# Altium integrated library Peace的集成库.IntLib: 214 symbols (part 1 of 3)
Pins are listed as number, name and electrical type; pins without a type are passive.

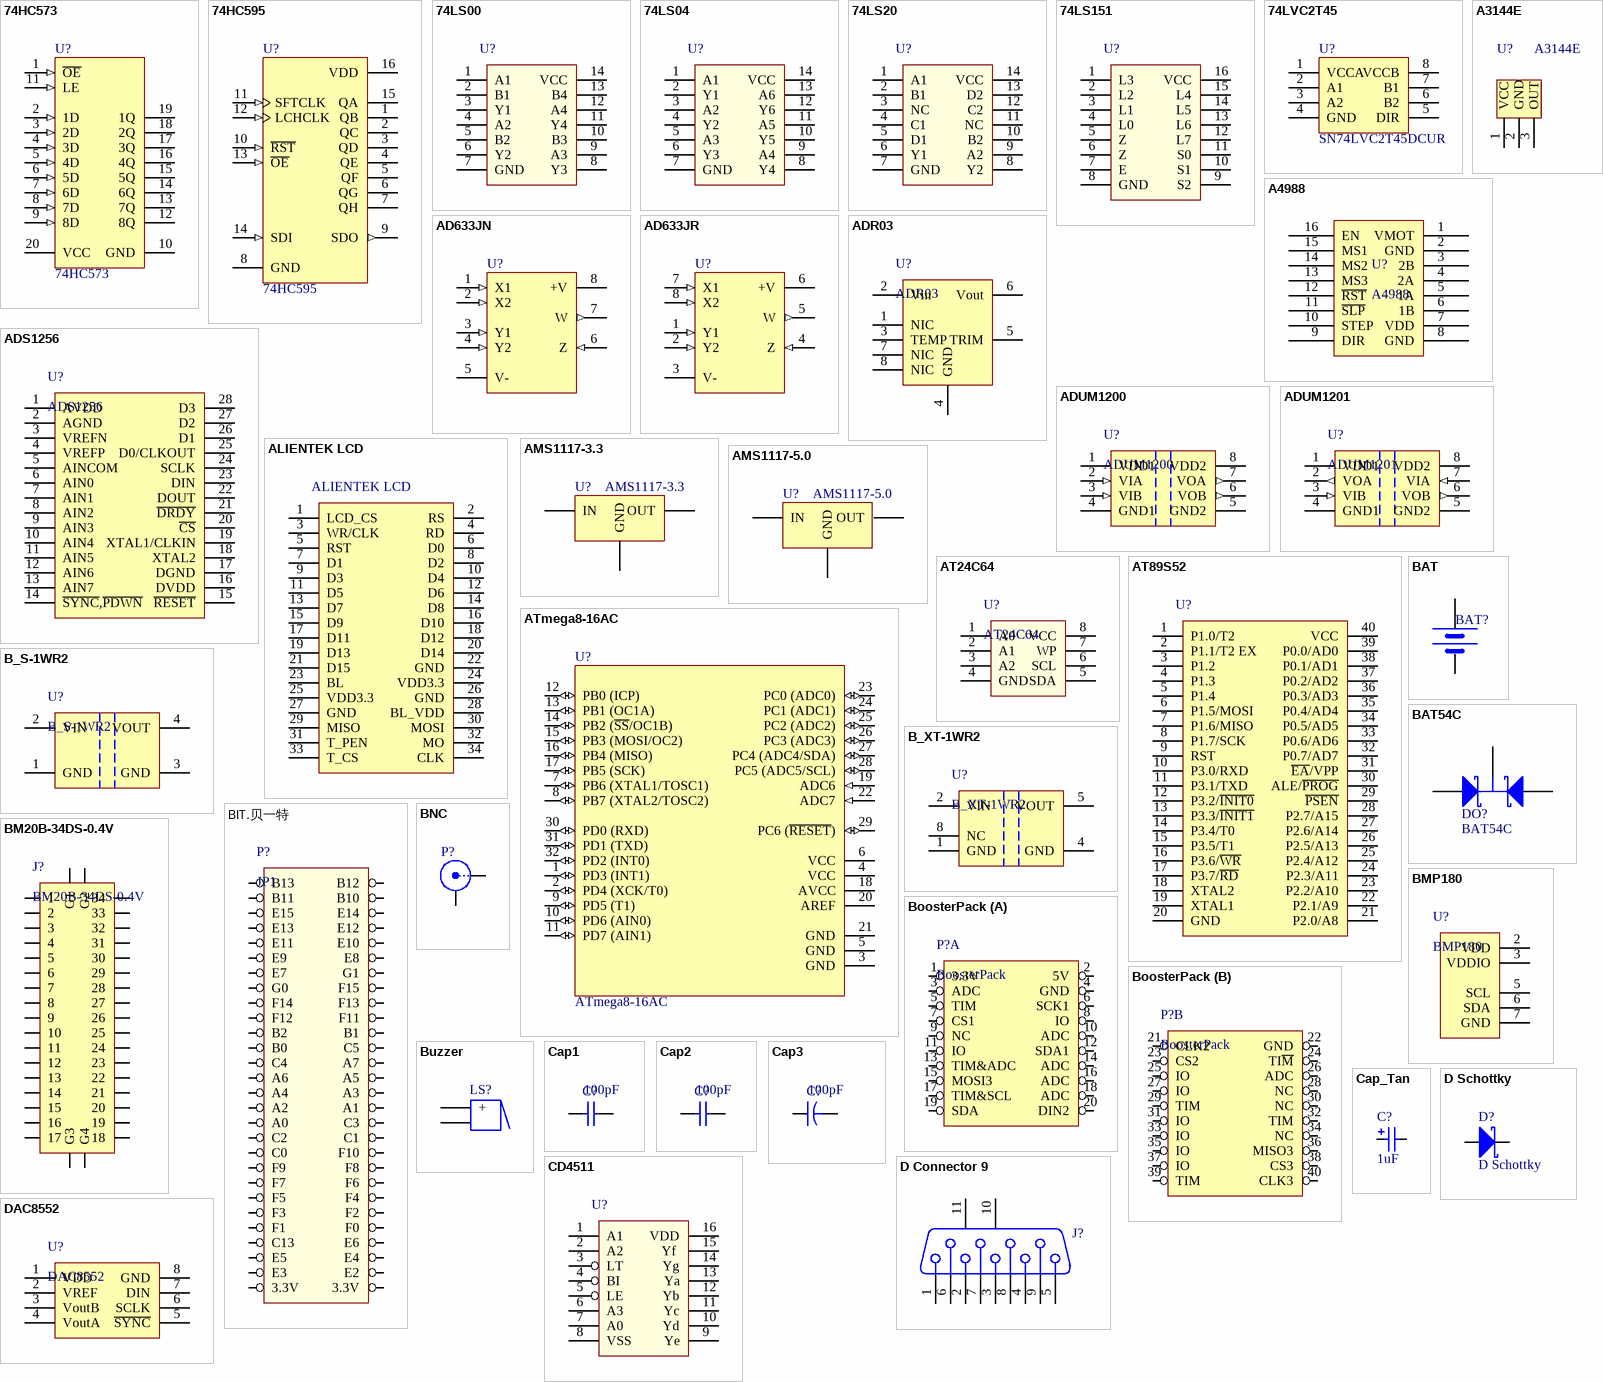
[diagram p0: symbols 74HC573 to DAC8552]

## 74HC573
designator U?
Octal Transparent Latches with 3-State Outputs; Published: 10-Feb-2010; DatasheetVersion: Rev.2.00, Mar-2006; PackageVersion: Sep-2005; PackageReference: PRDP0020AC-B; Publisher: Altium Limited; PackageDescription: 20-Pin Plastic DIP, 24.5 x 6.3 mm Body, 7.62 mm Row Spacing, 2.54 mm Pitch; Code_JEITA: P-DIP20-6.3x24.5-2.54; ComponentLink1Description: Manufacturer Link; ComponentLink1URL: http://sg.renesas.com/fmwk.jsp?cnt=hd74hc_root.jsp&fp=/products/standard_ic/general_purpose_logic/5v_standard_logic/hd74hc/; ComponentLink2Description: Datasheet; ComponentLink2URL: http://documentation.renesas.com/eng/products/logic/rej03d0629_hd74hc563_573ds.pdf; ComponentLink3Description: Packaging Specification; ComponentLink3URL: http://sg.renesas.com/media/products/common_info/package/pdf/ic/code/prdp0020ac_b.pdf
footprint TSSOP20_L (TSOP, 20-Leads, Body 6.5x4.4mm, Pitch 0.65mm, IPC High Density)
pins: 1 ~{OE} (in), 2 1D (in), 3 2D (in), 4 3D (in), 5 4D (in), 6 5D (in), 7 6D (in), 8 7D (in), 9 8D (in), 10 GND (power), 11 LE (in), 12 8Q (hiz), 13 7Q (hiz), 14 6Q (hiz), 15 5Q (hiz), 16 4Q (hiz), 17 3Q (hiz), 18 2Q (hiz), 19 1Q (hiz), 20 VCC (power)

## 74HC595
designator U?
8-Bit Serial-Input/Serial or Prallel-Output Shift Register with Latched 3-State Outputs; Published: 15-Apr-2002; LatestRevisionDate: 12-Dec-2006; LatestRevisionNote: IPC-7351 Footprint Added.; DatasheetVersion: Mar-2000; PackageVersion: Feb-2000; PackageReference: 948F-01; Publisher: Altium Limited; PackageDescription: 16-Pin Thin Small Outline Package 0.65 mm Pitch; ComponentLink1Description: Manufacturer Link; ComponentLink1URL: http://www.onsemi.com/; ComponentLink2Description: Datasheet; ComponentLink2URL: http://www.onsemi.com/pub/Collateral/MC74HC595A-D.PDF
footprint TSSOP-16N (TSOP, 16-Leads, Body 5.00x4.40mm, Pitch 0.65mm, IPC Medium Density)
pins: 1 QB (hiz), 2 QC (hiz), 3 QD (hiz), 4 QE (hiz), 5 QF (hiz), 6 QG (hiz), 7 QH (hiz), 8 GND (power), 9 SDO (out), 10 ~{RST} (in), 11 SFTCLK (in), 12 LCHCLK (in), 13 ~{OE} (in), 14 SDI (in), 15 QA (hiz), 16 VDD (power)

## 74LS00
designator U?  (value not drawn)
HelpURL: http://www.alldatasheet.com/view.jsp?Searchword=74LS00
footprint DIP-14 (width 7.62mm)
pins: 1 A1, 2 B1, 3 Y1, 4 A2, 5 B2, 6 Y2, 7 GND, 8 Y3, 9 A3, 10 B3, 11 Y4, 12 A4, 13 B4, 14 VCC

## 74LS04
designator U?  (value not drawn)
footprint DIP-14 (width 7.62mm)
pins: 1 A1, 2 Y1, 3 A2, 4 Y2, 5 A3, 6 Y3, 7 GND, 8 Y4, 9 A4, 10 Y5, 11 A5, 12 Y6, 13 A6, 14 VCC

## 74LS20
designator U?  (value not drawn)
footprint DIP-14 (width 7.62mm)
pins: 1 A1, 2 B1, 3 NC, 4 C1, 5 D1, 6 Y1, 7 GND, 8 Y2, 9 A2, 10 B2, 11 NC, 12 C2, 13 D2, 14 VCC

## 74LS151
designator U?  (value not drawn)
footprint DIP-16 (width 7.62mm)
pins: 1 L3, 2 L2, 3 L1, 4 L0, 5 Z, 6 Z, 7 E, 8 GND, 9 S2, 10 S1, 11 S0, 12 L7, 13 L6, 14 L5, 15 L4, 16 VCC

## 74LVC2T45
designator U?, comment SN74LVC2T45DCUR
footprint VSSOP8_0.5 (8-Leads, Body 2.00x2.30mm, Pitch 0.5mm, IPC Medium Density)
pins: 1 VCCA, 2 A1, 3 A2, 4 GND, 5 DIR, 6 B2, 7 B1, 8 VCCB

## A3144E
designator U?
footprint A3144E
pins: 1 VCC, 2 GND, 3 OUT

## A4988
designator U?
footprint A4988
pins: 1 VMOT (power), 2 GND (power), 3 2B (power), 4 2A (power), 5 1A (power), 6 1B (power), 7 VDD (power), 8 GND (power), 9 DIR (power), 10 STEP (power), 11 ~{SLP} (power), 12 ~{RST} (power), 13 MS3 (power), 14 MS2 (power), 15 MS1 (power), 16 EN (power)

## AD633JN
designator U?
Low-Cost Analog Multiplier; Published: 8-Jun-2000; LatestRevisionDate: 04-Mar-2005; LatestRevisionNote: Stylized 3D Model Added.; DatasheetVersion: REV.A 1998; PackageVersion: revA; PackageReference: N-8; Publisher: Altium Limited; PackageDescription: DIP; 8 Leads; Row Spacing 7.62 mm; Pitch 2.54 mm; ComponentLink1Description: Manufacturer Link; ComponentLink1URL: http://www.analog.com/en/prod/0%2C2877%2CAD633%2C00.html; ComponentLink2Description: Datasheet; ComponentLink2URL: http://www.analog.com/UploadedFiles/Data_Sheets/277093686AD633_e.pdf
footprint DIP-8 (width 7.62mm)
pins: 1 X1 (in), 2 X2 (in), 3 Y1 (in), 4 Y2 (in), 5 V- (power), 6 Z (in), 7 W (out), 8 +V (power)

## AD633JR
designator U?
Low-Cost Analog Multiplier; Published: 8-Jun-2000; LatestRevisionDate: 13-Apr-2006; LatestRevisionNote: IPC-7351 Footprint Added.; DatasheetVersion: REV.A 1998; PackageVersion: 2005; PackageReference: R-8; Publisher: Altium Limited; PackageDescription: 8-Pin Narrow Body Small Outline Integrated Circuit 1.27 mm Pitch; Code_JEDEC: MS-012-AA; Code_IPC: SOIC127P600-8; ComponentLink1Description: Manufacturer Link; ComponentLink1URL: http://www.analog.com/en/prod/0%2C2877%2CAD633%2C00.html; ComponentLink2Description: Datasheet; ComponentLink2URL: http://www.analog.com/UploadedFiles/Data_Sheets/277093686AD633_e.pdf
footprint SOIC8_L (SOIC, 8-Leads, Body 4.9x3.9mm, Pitch 1.27mm, IPC High Density)
footprint SOIC8_M (SOIC, 8-Leads, Body 4.9x3.9mm, Pitch 1.27mm, IPC Low Density)
footprint SOIC8_N (SOIC, 8-Leads, Body 4.9x3.9mm, Pitch 1.27mm, IPC Medium Density)
pins: 1 Y1 (in), 2 Y2 (in), 3 V- (power), 4 Z (in), 5 W (out), 6 +V (power), 7 X1 (in), 8 X2 (in)

## ADR03
designator U?
2.5V电压基准
footprint SOIC8_L (SOIC, 8-Leads, Body 4.9x3.9mm, Pitch 1.27mm, IPC High Density)
footprint SOIC8_M (SOIC, 8-Leads, Body 4.9x3.9mm, Pitch 1.27mm, IPC Low Density)
footprint SOIC8_N (SOIC, 8-Leads, Body 4.9x3.9mm, Pitch 1.27mm, IPC Medium Density)
pins: 1 NIC, 2 Vin, 3 TEMP, 4 GND, 5 TRIM, 6 Vout, 7 NIC, 8 NIC

## ADS1256
designator U?
footprint SSOP28_L (SOP, 28-Leads, Body 10.2x5.3mm, Pitch 0.65mm, IPC High Density)
footprint SSOP28_M (SOP, 28-Leads, Body 10.2x5.3mm, Pitch 0.65mm, IPC Low Density)
footprint SSOP28_N (SOP, 28-Leads, Body 10.2x5.3mm, Pitch 0.65mm, IPC Medium Density)
pins: 1 AVDD, 2 AGND, 3 VREFN, 4 VREFP, 5 AINCOM, 6 AIN0, 7 AIN1, 8 AIN2, 9 AIN3, 10 AIN4, 11 AIN5, 12 AIN6, 13 AIN7, 14 ~{SYNC},~{PDWN}, 15 ~{RESET}, 16 DVDD, 17 DGND, 18 XTAL2, 19 XTAL1/CLKIN, 20 ~{CS}, 21 ~{DRDY}, 22 DOUT, 23 DIN, 24 SCLK, 25 D0/CLKOUT, 26 D1, 27 D2, 28 D3

## ADUM1200
designator U?
双通道数字隔离器（2/0通道方向性）
footprint SOIC8_L (SOIC, 8-Leads, Body 4.9x3.9mm, Pitch 1.27mm, IPC High Density)
footprint SOIC8_M (SOIC, 8-Leads, Body 4.9x3.9mm, Pitch 1.27mm, IPC Low Density)
footprint SOIC8_N (SOIC, 8-Leads, Body 4.9x3.9mm, Pitch 1.27mm, IPC Medium Density)
pins: 1 VDD1 (power), 2 VIA (in), 3 VIB (in), 4 GND1 (power), 5 GND2 (power), 6 VOB (out), 7 VOA (out), 8 VDD2 (power)

## ADUM1201
designator U?
双通道数字隔离器（1/1通道方向性）
footprint SOIC8_L (SOIC, 8-Leads, Body 4.9x3.9mm, Pitch 1.27mm, IPC High Density)
footprint SOIC8_M (SOIC, 8-Leads, Body 4.9x3.9mm, Pitch 1.27mm, IPC Low Density)
footprint SOIC8_N (SOIC, 8-Leads, Body 4.9x3.9mm, Pitch 1.27mm, IPC Medium Density)
pins: 1 VDD1 (power), 2 VOA (out), 3 VIB (in), 4 GND1 (power), 5 GND2 (power), 6 VOB (out), 7 VIA (in), 8 VDD2 (power)

## ALIENTEK LCD
designator ALIENTEK LCD  (value not drawn)
footprint ALIENTEK LCD
pins: 1 LCD_CS, 2 RS, 3 WR/CLK, 4 RD, 5 RST, 6 D0, 7 D1, 8 D2, 9 D3, 10 D4, 11 D5, 12 D6, 13 D7, 14 D8, 15 D9, 16 D10, 17 D11, 18 D12, 19 D13, 20 D14, 21 D15, 22 GND, 23 BL, 24 VDD3.3, 25 VDD3.3, 26 GND, 27 GND, 28 BL_VDD, 29 MISO, 30 MOSI, 31 T_PEN, 32 MO, 33 T_CS, 34 CLK

## AMS1117-3.3
designator U?
footprint SOT-223_N (SOT223, 4-Leads, Body 6.5x3.5mm, Pitch 2.3mm, Lead Span 7mm - Alternate Lead Configuration, IPC Medium Density)
pins: 1 GND, 2 OUT, 3 IN

## AMS1117-5.0
designator U?
footprint SOT-223_N (SOT223, 4-Leads, Body 6.5x3.5mm, Pitch 2.3mm, Lead Span 7mm - Alternate Lead Configuration, IPC Medium Density)
pins: 1 GND, 2 OUT, 3 IN

## AT24C64
designator U?
footprint DIP-8 (width 7.62mm)
pins: 1 A0, 2 A1, 3 A2, 4 GND, 5 SDA, 6 SCL, 7 WP, 8 VCC

## AT89S52
designator U?  (value not drawn)
footprint DIP-40
pins: 1 P1.0/T2, 2 P1.1/T2 EX, 3 P1.2, 4 P1.3, 5 P1.4, 6 P1.5/MOSI, 7 P1.6/MISO, 8 P1.7/SCK, 9 RST, 10 P3.0/RXD, 11 P3.1/TXD, 12 P3.2/~{INIT0}, 13 P3.3/~{INIT1}, 14 P3.4/T0, 15 P3.5/T1, 16 P3.6/~{WR}, 17 P3.7/~{RD}, 18 XTAL2, 19 XTAL1, 20 GND, 21 P2.0/A8, 22 P2.1/A9, 23 P2.2/A10, 24 P2.3/A11, 25 P2.4/A12, 26 P2.5/A13, 27 P2.6/A14, 28 P2.7/A15, 29 ~{PSEN}, 30 ALE/~{PROG}, 31 ~{EA}/VPP, 32 P0.7/AD7, 33 P0.6/AD6, 34 P0.5/AD5, 35 P0.4/AD4, 36 P0.3/AD3, 37 P0.2/AD2, 38 P0.1/AD1, 39 P0.0/AD0, 40 VCC

## ATmega8-16AC
designator U?
8-Bit AVR Microcontroller with 8K Bytes of In-System Programmable Flash Memory; Published: 17-Sep-2003; LatestRevisionDate: 13-Apr-2006; LatestRevisionNote: IPC-7351 Footprint Added.; DatasheetVersion: 2486H-AVR-09/02; PackageVersion: revB, Oct-2001; PackageReference: 32A; Publisher: Altium Limited; PackageDescription: 32-Pin Thin Quad Flat Pack 0.8 mm Pitch; Code_JEDEC: MS-026-ABA; ComponentLink1Description: Manufacturer Link; ComponentLink1URL: http://www.atmel.com; ComponentLink2Description: Datasheet; ComponentLink2URL: http://www.atmel.com/dyn/resources/prod_documents/doc2486.pdf
3D model ATMEGA8-32A (32-Pin Thin Quad Flat Pack 0.8 mm Pitch)
footprint TQFP32A_L (Thin QFP, 32-Leads, Body 7x7mm, Pitch 0.8mm, IPC High Density)
pins: 1 PD3 (INT1) (io), 2 PD4 (XCK/T0) (io), 3 GND (power), 4 VCC (power), 5 GND (power), 6 VCC (power), 7 PB6 (XTAL1/TOSC1) (io), 8 PB7 (XTAL2/TOSC2) (io), 9 PD5 (T1) (io), 10 PD6 (AIN0) (io), 11 PD7 (AIN1) (io), 12 PB0 (ICP) (io), 13 PB1 (OC1A) (io), 14 PB2 (~{SS}/OC1B) (io), 15 PB3 (MOSI/OC2) (io), 16 PB4 (MISO) (io), 17 PB5 (SCK) (io), 18 AVCC (power), 19 ADC6 (in), 20 AREF, 21 GND (power), 22 ADC7 (in), 23 PC0 (ADC0) (io), 24 PC1 (ADC1) (io), 25 PC2 (ADC2) (io), 26 PC3 (ADC3) (io), 27 PC4 (ADC4/SDA) (io), 28 PC5 (ADC5/SCL) (io), 29 PC6 (~{RESET}) (io), 30 PD0 (RXD) (io), 31 PD1 (TXD) (io), 32 PD2 (INT0) (io)

## B_S-1WR2
designator U?
DC/DC 模块电源 1W，定电压输入，隔离非稳压单路输出
footprint B_S-1WR2
footprint B_S-1WR2_S
pins: 1 GND (power), 2 VIN (power), 3 GND (power), 4 VOUT (power)

## B_XT-1WR2
designator U?
DC/DC 模块电源 1W，定电压输入，隔离非稳压单路输出
footprint B_XT-1WR2
pins: 1 GND (power), 2 VIN (power), 4 GND (power), 5 VOUT (power), 8 NC

## BAT
designator BAT?, comment BATT  (value not drawn)
footprint BATM
pins: 1 VCC, 2 GND

## BAT54C
designator DO?
Schottky Barrier Double Diode; Published: 17-Sep-2003; LatestRevisionDate: 12-Dec-2006; LatestRevisionNote: IPC-7351 Footprint Added.; DatasheetVersion: 4-Mar-2002; PackageVersion: May-1999; PackageReference: SOT23; Publisher: Altium Limited; PackageDescription: 3-Pin SOT-23 Package 0.95 mm Pitch, 2.3 mm Lead Span; ComponentLink1Description: Manufacturer Link; ComponentLink1URL: http://www.semiconductors.philips.com/; ComponentLink2Description: Datasheet; ComponentLink2URL: http://www.semiconductors.philips.com/acrobat/datasheets/BAT54_SERIES_4.pdf
simulation model BAT54C (SUBCKT)
signal-integrity model BAT54C
footprint SOT23_L (SOT23, 3-Leads, Body 2.9x1.3mm, Pitch 0.95mm, Lead Span 2.3mm - Reverse Pinning, IPC High Density)
footprint SOT23_M (SOT23, 3-Leads, Body 2.9x1.3mm, Pitch 0.95mm, Lead Span 2.3mm - Reverse Pinning, IPC Low Density)
footprint SOT23_N (SOT23, 3-Leads, Body 2.9x1.3mm, Pitch 0.95mm, Lead Span 2.3mm - Reverse Pinning, IPC Medium Density)
pins: 1 K, 2 A2, 3 A1

## BIT.贝一特
designator P?, comment JP1
footprint HDR2X28 (Connector; Header; 28x2 Position)
pins: 1 B13, 2 B12, 3 B11, 4 B10, 5 E15, 6 E14, 7 E13, 8 E12, 9 E11, 10 E10, 11 E9, 12 E8, 13 E7, 14 G1, 15 G0, 16 F15, 17 F14, 18 F13, 19 F12, 20 F11, 21 B2, 22 B1, 23 B0, 24 C5, 25 C4, 26 A7, 27 A6, 28 A5, 29 A4, 30 A3, 31 A2, 32 A1, 33 A0, 34 C3, 35 C2, 36 C1, 37 C0, 38 F10, 39 F9, 40 F8, 41 F7, 42 F6, 43 F5, 44 F4, 45 F3, 46 F2, 47 F1, 48 F0, 49 C13, 50 E6, 51 E5, 52 E4, 53 E3, 54 E2, 55 3.3V, 56 3.3V

## BM20B-34DS-0.4V
designator J?
广濑34P板对板连接器(插座)
footprint BM20B-34DS-0.4V (广濑34P板对板连接器(插座))
pins: 1, 2, 3, 4, 5, 6, 7, 8, 9, 10, 11, 12, 13, 14, 15, 16, 17, 18, 19, 20, 21, 22, 23, 24, 25, 26, 27, 28, 29, 30, 31, 32, 33, 34, G1, G2, G3, G4

## BMP180
designator U?
footprint BMP180
pins: 2 VDD, 3 VDDIO, 5 SCL, 6 SDA, 7 GND

## BNC
designator P?
BNC Elbow Connector; LatestRevisionDate: 17-Jul-2002; LatestRevisionNote: Re-released for DXP Platform.; Publisher: Altium Limited
signal-integrity model Connector
footprint SMA-KE
pins: 1 X, 2 Y

## BoosterPack
designator P?
footprint BoosterPack
part A pins: 1 3.3V, 2 5V, 3 ADC, 4 GND, 5 TIM, 6 SCK1, 7 CS1, 8 IO, 9 NC, 10 ADC, 11 IO, 12 SDA1, 13 TIM&ADC, 14 ADC, 15 MOSI3, 16 ADC, 17 TIM&SCL, 18 ADC, 19 SDA, 20 DIN2
part B pins: 21 CLK2, 22 GND, 23 CS2, 24 TI~{M}, 25 IO, 26 ADC, 27 IO, 28 NC, 29 TIM, 30 NC, 31 IO, 32 TIM, 33 IO, 34 NC, 35 IO, 36 MISO3, 37 IO, 38 CS3, 39 TIM, 40 CLK3

## Buzzer
designator LS?
Magnetic Transducer Buzzer; Published: 24-Mar-1999; LatestRevisionDate: 17-Dec-2003; LatestRevisionNote: Schematic revised, PCB Footprint replaced.; DatasheetVersion: 17-Dec-2003; PackageReference: ABSM-1574; Publisher: Altium Limited; PackageDescription: Magnetic Transducer Buzzer; ComponentLink1Description: Manufacturer Link; ComponentLink1URL: http://www.megastar.com/linecard/buzzmode/index.php
footprint Buzzer 7.6
footprint Buzzer 5
pins: 1 +, 2
1 alternate drawing of the same symbol

## Cap1
designator C?  value 100pF  (hidden comment: Cap1)
Capacitor; Published: 8-Jun-2000; LatestRevisionDate: 17-Jul-2002; LatestRevisionNote: Re-released for DXP Platform.; PackageReference: RAD-0.3; Publisher: Altium Limited
footprint CAPC2012L (Chip Capacitor, Body 2.0x1.3mm, IPC High Density)
footprint CAPC2012M (Chip Capacitor, Body 2.0x1.3mm, IPC High Density)
footprint CAPC2012N (Chip Capacitor, Body 2.0x1.3mm, IPC Medium Density)
footprint CAPC1005L (Chip Capacitor, Body 1.0x0.5mm, IPC High Density)
footprint CAPC1005M (Chip Capacitor, Body 1.0x0.5mm, IPC Low Density)
footprint CAPC1005N (Chip Capacitor, Body 1.0x0.5mm, IPC Medium Density)
footprint CAPC1608L (Chip Capacitor, Body 1.6x0.8mm, IPC High Density)
footprint CAPC1608M (Chip Capacitor, Body 1.6x0.8mm, IPC Low Density)
footprint CAPC1608N (Chip Capacitor, Body 1.6x0.8mm, IPC Medium Density)
footprint CAPC3216L (Chip Capacitor, Body 3.2x1.6mm, IPC High Density)
footprint CAPC3216M (Chip Capacitor, Body 3.2x1.6mm, IPC Low Density)
footprint CAPC3216N (Chip Capacitor, Body 3.2x1.6mm, IPC Medium Density)
footprint C1210_L (Chip Capacitor, Body 3.2x2.5mm, IPC High Density)
footprint C1210_M (Chip Capacitor, Body 3.2x2.5mm, IPC Low Density)
footprint C1210_N (Chip Capacitor, Body 3.2x2.5mm, IPC Medium Density)
pins: 1, 2

## Cap2
designator C?  value 100pF  (hidden comment: Cap2)
Capacitor; Published: 8-Jun-2000; LatestRevisionDate: 17-Jul-2002; LatestRevisionNote: Re-released for DXP Platform.; PackageReference: RAD-0.3; Publisher: Altium Limited
footprint RAD-0.1 (Radial Cap, Thru-Hole; 2 Leads; 0.1 in Pin Spacing)
footprint RAD-0.2 (Radial Cap, Thru-Hole; 2 Leads; 0.2 in Pin Spacing)
footprint RAD-0.3 (Radial Cap, Thru-Hole; 2 Leads; 0.3 in Pin Spacing)
footprint RAD-0.4 (Radial Cap, Thru-Hole; 2 Leads; 0.4 in Pin Spacing)
pins: 1, 2

## Cap3
designator C?  value 100pF  (hidden comment: Cap3)
Capacitor; Published: 23-Sep-2002; PackageReference: CAPR5-4X5; Publisher: Altium Limited
footprint CAPR2-5x6.8 (Capacitor, Electrolytic, Radial; Body 5 x 6.8 mm (Dia.xH typ); Pin Spacing 2 mm (typ))
footprint CAPR4.5-22X13
footprint CAPR4.5-20X10
footprint CAPR3.5-12X8
footprint CAPR2.54-11X6 (Capacitor, Ceramic, Thru-Hole, Dipped Radial; Body 5.1 x 3.2 mm (WxT) Pin Spacing 2.54 mm (typ))
footprint CAPR3.0-12X8
footprint SMD-EC-F3
footprint SMD-EC-F4
footprint SMD-EC-F5
footprint SMD-EC-F6.3
footprint SMD-EC-F8
footprint SMD-EC-F10
footprint SMD-EC-F12.5
footprint SMD-EC-F16
pins: 1, 2

## Cap_Tan
designator C?  value 1uF  (hidden comment: Cap_Tan)
Capacitor
footprint CAP_TAN_B1210
footprint CAP_TAN_P0805
footprint CAP_TAN_B_3518
pins: 1, 2
1 alternate drawing of the same symbol

## CD4511
designator U?  (value not drawn)
footprint DIP-16 (width 7.62mm)
pins: 1 A1, 2 A2, 3 LT, 4 BI, 5 LE, 6 A3, 7 A0, 8 VSS, 9 Ye, 10 Yd, 11 Yc, 12 Yb, 13 Ya, 14 Yg, 15 Yf , 16 VDD

## D Connector 9
designator J?
Receptacle Assembly, 9 Position, Right Angle; PackageDocument: O; Positions: 9; Published: 15-Jun-2001; LatestRevisionDate: 17-Jul-2002; LatestRevisionNote: Re-released for DXP Platform.; DatasheetDocument: 1-Sep-1999; PackageReference: 788750; Publisher: Altium Limited; Orientation: Right Angle; Gender: Receptacle
footprint DSUB1.385-2H9 (Connector; D Subminiature; 9 Position; Right Angle; Pitch 1.385 mm)
signal-integrity model Connector
footprint DSUB1.385-2H9 (Connector; D Subminiature; 9 Position; Right Angle; Pitch 1.385 mm)
pins: 1, 2, 3, 4, 5, 6, 7, 8, 9, 10 MH1, 11 MH2

## D Schottky
designator D?
Schottky Diode; Published: 8-Jun-2000; LatestRevisionDate: 17-Jul-2002; LatestRevisionNote: Re-released for DXP Platform.; PackageReference: SMB; Publisher: Altium Limited; Code_JEDEC: DO-214-AA
footprint DO-201AD (Diode, Axial; Body 9.5 x 5.3 mm (LxDia. max), Lead Dia. 1.32 mm (max))
footprint DO-7 (Diode, Axial; Body 7 x 2.7 mm (LxDia. max), Lead Dia. 0.53 mm (max))
footprint DO-35 (Diode, Axial; Body 3.8 x 1.9 mm (LxDia. max), Lead Dia. 0.53 mm (max))
footprint DO-35A (Diode, Axial; Body 4.6 x 1.9 mm (LxDia. max), Lead Dia. 0.53 mm (max))
footprint DO-41 (Diode, Axial; Body 5.2 x 2.7 mm (LxDia. max), Lead Dia. 0.86 mm (max))
footprint DO-204AL (Diode, Axial; Body 5.2 x 2.7 mm (LxDia. max), Lead Dia. 0.86 mm (max))
footprint DO-15-UP
footprint DO-214AC
footprint SOD-323 (SOD-323/SC-76; 2 Leads; Body 1.7 x 1.3 mm, (LxW))
footprint DO-214AB (SMC)
footprint DO-214AA (SMB)
pins: 1 A, 2 K

## DAC8552
designator U?
footprint VSSOP_8
pins: 1 VDD, 2 VREF, 3 VoutB, 4 VoutA, 5 ~{SYNC}, 6 SCLK, 7 DIN, 8 GND

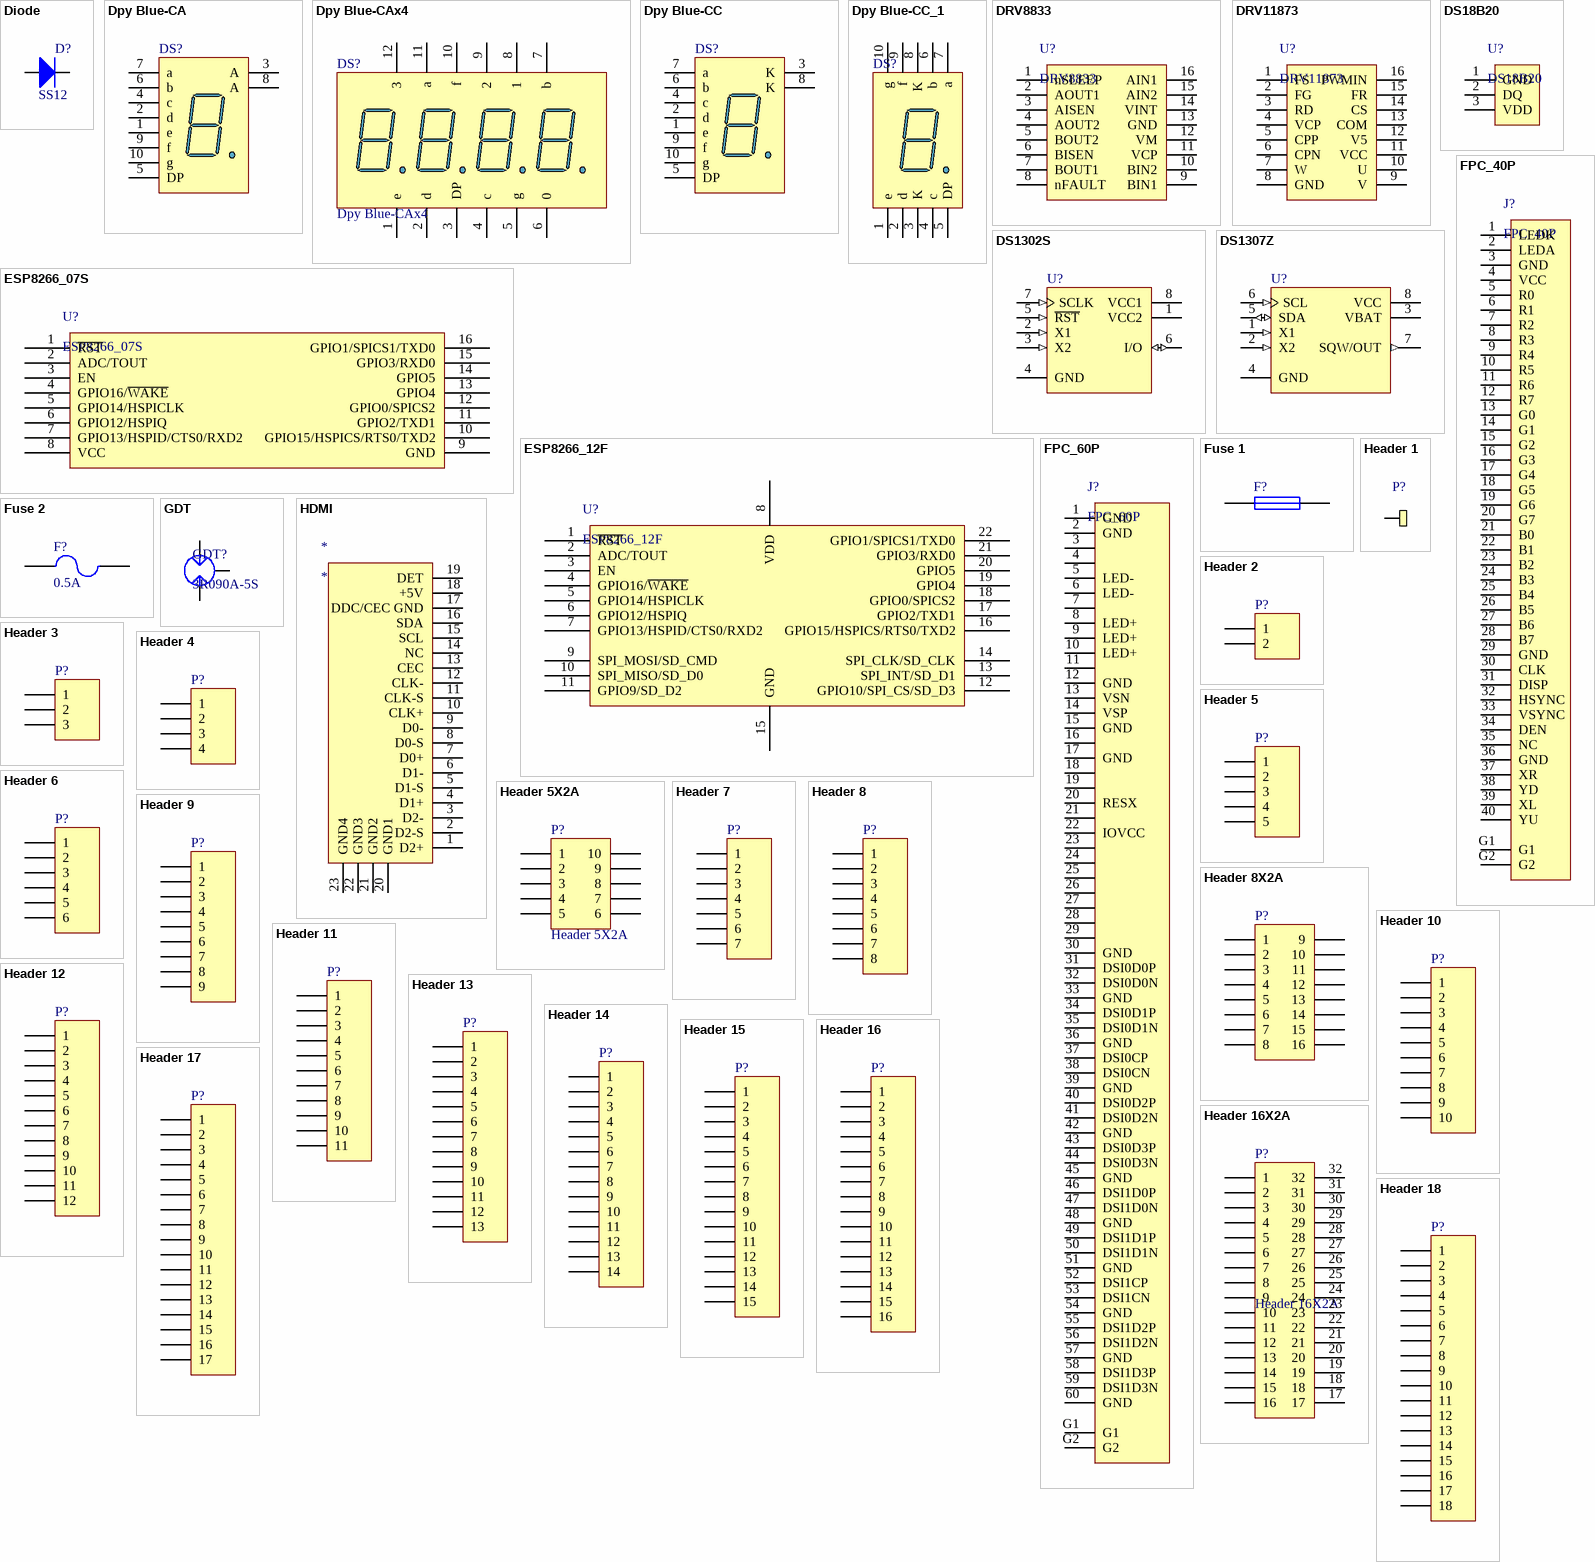
[diagram p1: symbols Diode to Header 18]

## Diode
designator D?  SMA: SS12  (hidden comment: Diode)
footprint DO-214AC
footprint DO-214AB (SMC)
footprint DO-214AA (SMB)
pins: 1 A, 2 K

## Dpy Blue-CA
designator DS?
14.2 mm General Purpose Blue 7-Segment Display: CA, RH DP, Gray Surface; MinimumIntensity: 2020 ucd; Note: IF = 10 mA; Published: 8-Jun-2000; LatestRevisionDate: 17-Dec-2003; LatestRevisionNote: Schematic revised, PCB Footprint replaced.; DatasheetVersion: 24-Sep-2002; PackageVersion: 24-Sep-2002; PackageReference: H; Publisher: Altium Limited; Colour: Blue; ComponentLink1Description: Manufacturer Link; ComponentLink1URL: http://www.agilent.com/
footprint LEDDIP-10/C15.24RHD (LED, 7-Segment Display, 14.2 mm, RHD; 10 Leads; Row Space 15.24 mm; Pitch 2.54 mm)
pins: 1 e "Cathode", 2 d "Cathode", 3 A "Common Anode", 4 c "Cathode", 5 DP "Cathode", 6 b "Cathode", 7 a "Cathode", 8 A "Common Anode", 9 f "Cathode", 10 g "Cathode"

## Dpy Blue-CAx4
designator DS?
footprint LEDDIP-12 3x1.4 (30x14x7.5mm)
footprint LEDDIP-12 5.03x19 (50.3x19x8mm)
footprint LEDDIP-12 3.76x19 (37.6x19x8mm)
pins: 1 e "Cathode", 2 d "Cathode", 3 DP "Cathode", 4 c "Cathode", 5 g "Cathode", 6 0 "Common Anode", 7 b "Cathode", 8 1 "Common Anode", 9 2 "Common Anode", 10 f "Cathode", 11 a "Cathode", 12 3 "Common Anode"

## Dpy Blue-CC
designator DS?
14.2 mm General Purpose Blue 7-Segment Display: CC, RH DP, Gray Surface; MinimumIntensity: 2020 ucd; Note: IF = 10 mA; Published: 8-Jun-2000; LatestRevisionDate: 17-Dec-2003; LatestRevisionNote: Schematic revised, PCB Footprint replaced.; DatasheetVersion: 24-Sep-2002; PackageVersion: 24-Sep-2002; PackageReference: H; Publisher: Altium Limited; Colour: Blue; ComponentLink1Description: Manufacturer Link; ComponentLink1URL: http://www.agilent.com/
footprint LEDDIP-10/C15.24RHD (LED, 7-Segment Display, 14.2 mm, RHD; 10 Leads; Row Space 15.24 mm; Pitch 2.54 mm)
pins: 1 e "Anode", 2 d "Anode", 3 K "Common Cathode", 4 c "Anode", 5 DP "Anode", 6 b "Anode", 7 a "Anode", 8 K "Common Cathode", 9 f "Anode", 10 g "Anode"

## Dpy Blue-CC_1
designator DS?
14.2 mm General Purpose Blue 7-Segment Display: CC, RH DP, Gray Surface; MinimumIntensity: 2020 ucd; Note: IF = 10 mA; Published: 8-Jun-2000; LatestRevisionDate: 17-Dec-2003; LatestRevisionNote: Schematic revised, PCB Footprint replaced.; DatasheetVersion: 24-Sep-2002; PackageVersion: 24-Sep-2002; PackageReference: H; Publisher: Altium Limited; Colour: Blue; ComponentLink1Description: Manufacturer Link; ComponentLink1URL: http://www.agilent.com/
footprint LEDDIP-10/C15.24RHD (LED, 7-Segment Display, 14.2 mm, RHD; 10 Leads; Row Space 15.24 mm; Pitch 2.54 mm)
pins: 1 e "Anode", 2 d "Anode", 3 K "Common Cathode", 4 c "Anode", 5 DP "Anode", 6 b "Anode", 7 a "Anode", 8 K "Common Cathode", 9 f "Anode", 10 g "Anode"

## DRV8833
designator U?
footprint TSSOP-16N (TSOP, 16-Leads, Body 5.00x4.40mm, Pitch 0.65mm, IPC Medium Density)
pins: 1 nSLEEP, 2 AOUT1, 3 AISEN, 4 AOUT2, 5 BOUT2, 6 BISEN, 7 BOUT1, 8 nFAULT, 9 BIN1, 10 BIN2, 11 VCP, 12 VM, 13 GND, 14 VINT, 15 AIN2, 16 AIN1

## DRV11873
designator U?
三相无传感器、 无刷直流 (BLDC) 电机驱动器
footprint TSSOP-16N (TSOP, 16-Leads, Body 5.00x4.40mm, Pitch 0.65mm, IPC Medium Density)
pins: 1 FS, 2 FG, 3 RD, 4 VCP, 5 CPP, 6 CPN, 7 W, 8 GND, 9 V, 10 U, 11 VCC, 12 V5, 13 COM, 14 CS, 15 FR, 16 PWMIN

## DS18B20
designator U?
footprint TO-226-AA (TO, Flat Index; 3 In-Line, Axial Leads; Body Dia. 4.8mm; Leads 0.55 x 0.51 mm (max))
pins: 1 GND, 2 DQ, 3 VDD

## DS1302S
designator U?
Trickle Charge Timekeeping Chip; Published: 13-Oct-2000; LatestRevisionDate: 13-Apr-2006; LatestRevisionNote: IPC-7351 Footprint Added.; DatasheetVersion: 2-Jul-1999; PackageVersion: 1994; PackageReference: SOIC8WA; Publisher: Altium Limited; PackageDescription: 8-Pin Small Outline Package 1.27 mm Pitch; ComponentLink1Description: Manufacturer Link; ComponentLink1URL: http://www.maxim-ic.com/; ComponentLink2Description: Datasheet; ComponentLink2URL: http://pdfserv.maxim-ic.com/en/ds/DS1302.pdf; ComponentLink3Description: Discontinuation Notice; ComponentLink3URL: http://www.maxim-ic.com/qa/pdfs/non-obsolescence-letter.pdf
footprint SOIC8_L (SOIC, 8-Leads, Body 4.9x3.9mm, Pitch 1.27mm, IPC High Density)
footprint SOIC8_M (SOIC, 8-Leads, Body 4.9x3.9mm, Pitch 1.27mm, IPC Low Density)
footprint SOIC8_N (SOIC, 8-Leads, Body 4.9x3.9mm, Pitch 1.27mm, IPC Medium Density)
pins: 1 VCC2 (power), 2 X1 (in), 3 X2 (in), 4 GND (power), 5 ~{RST} (in), 6 I/O (io), 7 SCLK (in), 8 VCC1 (power)

## DS1307Z
designator U?
64 X 8 Serial Real-Time Clock; Published: 13-Oct-2000; LatestRevisionDate: 13-Apr-2006; LatestRevisionNote: IPC-7351 Footprint Added.; DatasheetVersion: 10-Aug-1999; PackageVersion: 1999; PackageReference: SOIC8N; Publisher: Altium Limited; PackageDescription: 8-Pin Small Outline Integrated Circuit 1.27 mm Pitch; Code_IPC: SOIC127P600-8; ComponentLink1Description: Manufacturer Link; ComponentLink1URL: http://www.maxim-ic.com/; ComponentLink2Description: Datasheet; ComponentLink2URL: http://pdfserv.maxim-ic.com/en/ds/DS1307.pdf; ComponentLink3Description: Discontinuation Notice; ComponentLink3URL: http://www.maxim-ic.com/qa/pdfs/non-obsolescence-letter.pdf
footprint SOIC8_L (SOIC, 8-Leads, Body 4.9x3.9mm, Pitch 1.27mm, IPC High Density)
footprint SOIC8_M (SOIC, 8-Leads, Body 4.9x3.9mm, Pitch 1.27mm, IPC Low Density)
footprint SOIC8_N (SOIC, 8-Leads, Body 4.9x3.9mm, Pitch 1.27mm, IPC Medium Density)
pins: 1 X1 (in), 2 X2 (in), 3 VBAT (power), 4 GND (power), 5 SDA (io), 6 SCL (in), 7 SQW/OUT (out), 8 VCC (power)

## ESP8266_07S
designator U?
footprint ESP8266_07S
pins: 1 ~{RST} "Reset", 2 ADC/TOUT "ADC Input Or TOUT Output", 3 EN "Chip enable", 4 GPIO16/~{WAKE} "GPIO16 or Deep-Sleep Wakeup", 5 GPIO14/HSPICLK "GPIO14 or SPI CLK", 6 GPIO12/HSPIQ "GPIO12 or SPIQ", 7 GPIO13/HSPID/CTS0/RXD2 "GPIO13 or SPID", 8 VCC "Power supply", 9 GND "Power ground", 10 GPIO15/HSPICS/RTS0/TXD2 "GPIO15 or SPICS", 11 GPIO2/TXD1 "GPIO2 or TX", 12 GPIO0/SPICS2 "GPIO0 or SPICS2", 13 GPIO4 "GPIO5", 14 GPIO5 "GPIO4", 15 GPIO3/RXD0 "GPIO3 or UART RXD", 16 GPIO1/SPICS1/TXD0 "GPIO1 or UART TXD"

## ESP8266_12F
designator U?
footprint ESP8266_12F
pins: 1 ~{RST} "Reset", 2 ADC/TOUT "ADC Input Or TOUT Output", 3 EN "Chip enable", 4 GPIO16/~{WAKE} "GPIO16 or Deep-Sleep Wakeup", 5 GPIO14/HSPICLK "GPIO14 or SPI CLK", 6 GPIO12/HSPIQ "GPIO12 or SPIQ", 7 GPIO13/HSPID/CTS0/RXD2 "GPIO13 or SPID", 8 VDD "Power supply", 9 SPI_MOSI/SD_CMD "GPIO14 or SPI CLK", 10 SPI_MISO/SD_D0 "GPIO12 or SPIQ", 11 GPIO9/SD_D2 "GPIO13 or SPID", 12 GPIO10/SPI_CS/SD_D3 "GPIO15 or SPICS", 13 SPI_INT/SD_D1 "GPIO2 or TX", 14 SPI_CLK/SD_CLK "GPIO0 or SPICS2", 15 GND "Power ground", 16 GPIO15/HSPICS/RTS0/TXD2 "GPIO15 or SPICS", 17 GPIO2/TXD1 "GPIO2 or TX", 18 GPIO0/SPICS2 "GPIO0 or SPICS2", 19 GPIO4 "GPIO5", 20 GPIO5 "GPIO4", 21 GPIO3/RXD0 "GPIO3 or UART RXD", 22 GPIO1/SPICS1/TXD0 "GPIO1 or UART TXD"

## FPC_40P
designator J?
footprint FPC0.5_40P
pins: 1 LEDK, 2 LEDA, 3 GND, 4 VCC, 5 R0, 6 R1, 7 R2, 8 R3, 9 R4, 10 R5, 11 R6, 12 R7, 13 G0, 14 G1, 15 G2, 16 G3, 17 G4, 18 G5, 19 G6, 20 G7, 21 B0, 22 B1, 23 B2, 24 B3, 25 B4, 26 B5, 27 B6, 28 B7, 29 GND, 30 CLK, 31 DISP, 32 HSYNC, 33 VSYNC, 34 DEN, 35 NC, 36 GND, 37 XR, 38 YD, 39 XL, 40 YU, G1, G2

## FPC_60P
designator J?
footprint FPC0.5_60P
pins: 1 GND, 2 GND, 3, 4, 5 LED-, 6 LED-, 7, 8 LED+, 9 LED+, 10 LED+, 11, 12 GND, 13 VSN, 14 VSP, 15 GND, 16, 17 GND, 18, 19, 20 RESX, 21, 22 IOVCC, 23, 24, 25, 26, 27, 28, 29, 30 GND, 31 DSI0D0P, 32 DSI0D0N, 33 GND, 34 DSI0D1P, 35 DSI0D1N, 36 GND, 37 DSI0CP, 38 DSI0CN, 39 GND, 40 DSI0D2P, 41 DSI0D2N, 42 GND, 43 DSI0D3P, 44 DSI0D3N, 45 GND, 46 DSI1D0P, 47 DSI1D0N, 48 GND, 49 DSI1D1P, 50 DSI1D1N, 51 GND, 52 DSI1CP, 53 DSI1CN, 54 GND, 55 DSI1D2P, 56 DSI1D2N, 57 GND, 58 DSI1D3P, 59 DSI1D3N, 60 GND, G1, G2

## Fuse 1
designator F?
Fuse; Published: 8-Jun-2000; LatestRevisionDate: 17-Jul-2002; LatestRevisionNote: Re-released for DXP Platform.; PackageReference: PIN-W2/E2.8; Publisher: Altium Limited; PackageDescription: Thru-Hole; 2 Leads
simulation model FUSE (Spice Subcircuit)
footprint 1812 (Chip Capacitor, Body 4.5x3.2mm, IPC High Density)
pins: 1, 2

## Fuse 2
designator F?, comment 0.5A
Fuse; Published: 8-Jun-2000; LatestRevisionDate: 17-Jul-2002; LatestRevisionNote: Re-released for DXP Platform.; PackageReference: PIN-W2/E2.8; Publisher: Altium Limited; PackageDescription: Thru-Hole; 2 Leads
simulation model FUSE (Spice Subcircuit)
footprint 1812 (Chip Capacitor, Body 4.5x3.2mm, IPC High Density)
footprint FUSE3216L (Body 3.2x1.6mm, IPC High Density)
footprint FUSE3216M (Body 3.2x1.6mm, IPC Low Density)
footprint FUSE3216N (Body 3.2x1.6mm, IPC Medium Density)
footprint FUSE2012L (Body 2.0x1.2mm, IPC Low Density)
footprint FUSE2012M (Body 2.0x1.2mm, IPC Low Density)
footprint FUSE2012N (Body 2.0x1.2mm, IPC Low Density)
pins: 1, 2

## GDT
designator GDT?, comment 3R090A-5S
气体放电管
footprint SMD-7.6*5.0 (气体放电管)
pins: 1 A, 2 E, 3 B

## HDMI
designator *
footprint HDMI19/0.5/S/H/F
pins: 1 D2+, 2 D2-S, 3 D2-, 4 D1+, 5 D1-S, 6 D1-, 7 D0+, 8 D0-S, 9 D0-, 10 CLK+, 11 CLK-S, 12 CLK-, 13 CEC, 14 NC, 15 SCL, 16 SDA, 17 DDC/CEC GND, 18 +5V, 19 DET, 20 GND1, 21 GND2, 22 GND3, 23 GND4

## Header 1
designator P?  (value not drawn)
Header, 1-Pin
footprint JP1
pins: 1

## Header 2
designator P?  (value not drawn)
Header, 2-Pin; LatestRevisionDate: 17-Jul-2002; LatestRevisionNote: Re-released for DXP Platform.; Publisher: Altium Limited
footprint HDR1X2 (Connector; Header; 2 Position)
footprint HX2.54-2
footprint PH2.0-2
footprint HT3.96-2 (Connector; Header; 2 Position)
footprint KF396-2
pins: 1, 2

## Header 3
designator P?  (value not drawn)
Header, 3-Pin; LatestRevisionDate: 17-Jul-2002; LatestRevisionNote: Re-released for DXP Platform.; Publisher: Altium Limited
footprint HDR1X3 (Connector; Header; 4 Position)
footprint HX2.54-3
footprint PH2.0-3
footprint HT3.96-3 (Connector; Header; 3 Position)
footprint KF396-3
footprint KF2EDGR-5.08-3P_S
pins: 1, 2, 3

## Header 4
designator P?  (value not drawn)
Header, 4-Pin; LatestRevisionDate: 17-Jul-2002; LatestRevisionNote: Re-released for DXP Platform.; Publisher: Altium Limited
footprint HDR1X4 (Connector; Header; 4 Position)
footprint HX2.54-4
footprint PH2.0-4
footprint HDR1X4_1.27
footprint HT3.96-4 (Connector; Header; 4 Position)
footprint KF2EDGR-5.08-4P_S
pins: 1, 2, 3, 4

## Header 5
designator P?  (value not drawn)
Header, 5-Pin; LatestRevisionDate: 17-Jul-2002; LatestRevisionNote: Re-released for DXP Platform.; Publisher: Altium Limited
footprint HDR1X5 (Connector; Header; 5 Position)
footprint HX2.54-5
footprint PH2.0-5
footprint KF396-5
pins: 1, 2, 3, 4, 5

## Header 5X2A
designator P?
Header, 5-Pin, Dual row; LatestRevisionDate: 17-Jul-2002; LatestRevisionNote: Re-released for DXP Platform.; Publisher: Altium Limited
signal-integrity model Connector
footprint HDR2x5_TOP
pins: 1, 2, 3, 4, 5, 6, 7, 8, 9, 10

## Header 6
designator P?  (value not drawn)
Header, 6-Pin; LatestRevisionDate: 17-Jul-2002; LatestRevisionNote: Re-released for DXP Platform.; Publisher: Altium Limited
footprint HDR1X6 (Footprint not found)
footprint HX2.54-6
footprint PH2.0-6
footprint HT3.96-6 (Connector; Header; 6 Position)
pins: 1, 2, 3, 4, 5, 6

## Header 7
designator P?
Header, 7-Pin; LatestRevisionDate: 17-Jul-2002; LatestRevisionNote: Re-released for DXP Platform.; Publisher: Altium Limited
footprint HDR1X7 (Connector; Header; 7 Position)
signal-integrity model Connector
footprint PH2.0-7
footprint HX2.54-7
pins: 1, 2, 3, 4, 5, 6, 7

## Header 8
designator P?
Header, 8-Pin; LatestRevisionDate: 17-Jul-2002; LatestRevisionNote: Re-released for DXP Platform.; Publisher: Altium Limited
footprint HDR1X8 (Connector; Header; 8 Position)
signal-integrity model Connector
footprint PH2.0-8
footprint HX2.54-8
footprint KF2EDGR-5.08-8P_S
pins: 1, 2, 3, 4, 5, 6, 7, 8

## Header 8X2A
designator P?
Header, 8-Pin, Dual row; LatestRevisionDate: 17-Jul-2002; LatestRevisionNote: Re-released for DXP Platform.; Publisher: Altium Limited
footprint HDR2X8_CEN (Connector; Header; 8x2 Position)
signal-integrity model Connector
footprint HDR2X8_CEN (Connector; Header; 8x2 Position)
pins: 1, 2, 3, 4, 5, 6, 7, 8, 9, 10, 11, 12, 13, 14, 15, 16

## Header 9
designator P?
Header, 9-Pin; LatestRevisionDate: 17-Jul-2002; LatestRevisionNote: Re-released for DXP Platform.; Publisher: Altium Limited
footprint HDR1X9 (Connector; Header; 9 Position)
signal-integrity model Connector
pins: 1, 2, 3, 4, 5, 6, 7, 8, 9

## Header 10
designator P?
Header, 10-Pin; LatestRevisionDate: 17-Jul-2002; LatestRevisionNote: Re-released for DXP Platform.; Publisher: Altium Limited
footprint HDR1X10 (Connector; Header; 10 Position)
signal-integrity model Connector
pins: 1, 2, 3, 4, 5, 6, 7, 8, 9, 10

## Header 11
designator P?
Header, 11-Pin; LatestRevisionDate: 17-Jul-2002; LatestRevisionNote: Re-released for DXP Platform.; Publisher: Altium Limited
footprint HDR1X11 (Connector; Header; 11 Position)
signal-integrity model Connector
pins: 1, 2, 3, 4, 5, 6, 7, 8, 9, 10, 11

## Header 12
designator P?
Header, 12-Pin; LatestRevisionDate: 17-Jul-2002; LatestRevisionNote: Re-released for DXP Platform.; Publisher: Altium Limited
footprint HDR1X12 (Connector; Header; 12 Position)
signal-integrity model Connector
pins: 1, 2, 3, 4, 5, 6, 7, 8, 9, 10, 11, 12

## Header 13
designator P?
Header, 13-Pin; LatestRevisionDate: 17-Jul-2002; LatestRevisionNote: Re-released for DXP Platform.; Publisher: Altium Limited
footprint HDR1X13 (Connector; Header; 13 Position)
signal-integrity model Connector
pins: 1, 2, 3, 4, 5, 6, 7, 8, 9, 10, 11, 12, 13

## Header 14
designator P?
Header, 14-Pin; LatestRevisionDate: 17-Jul-2002; LatestRevisionNote: Re-released for DXP Platform.; Publisher: Altium Limited
footprint HDR1X14 (Connector; Header; 14 Position)
signal-integrity model Connector
pins: 1, 2, 3, 4, 5, 6, 7, 8, 9, 10, 11, 12, 13, 14

## Header 15
designator P?
Header, 15-Pin; LatestRevisionDate: 17-Jul-2002; LatestRevisionNote: Re-released for DXP Platform.; Publisher: Altium Limited
footprint HDR1X15 (Connector; Header; 15 Position)
signal-integrity model Connector
pins: 1, 2, 3, 4, 5, 6, 7, 8, 9, 10, 11, 12, 13, 14, 15

## Header 16
designator P?
Header, 16-Pin; LatestRevisionDate: 17-Jul-2002; LatestRevisionNote: Re-released for DXP Platform.; Publisher: Altium Limited
footprint HDR1X16 (Connector; Header; 16 Position)
signal-integrity model Connector
pins: 1, 2, 3, 4, 5, 6, 7, 8, 9, 10, 11, 12, 13, 14, 15, 16

## Header 16X2A
designator P?
Header, 16-Pin, Dual row; LatestRevisionDate: 17-Jul-2002; LatestRevisionNote: Re-released for DXP Platform.; Publisher: Altium Limited
footprint HDR2X16_CEN (Connector; Header; 16x2 Position)
pins: 1, 2, 3, 4, 5, 6, 7, 8, 9, 10, 11, 12, 13, 14, 15, 16, 17, 18, 19, 20, 21, 22, 23, 24, 25, 26, 27, 28, 29, 30, 31, 32

## Header 17
designator P?
Header, 17-Pin; LatestRevisionDate: 17-Jul-2002; LatestRevisionNote: Re-released for DXP Platform.; Publisher: Altium Limited
footprint HDR1X17 (Connector; Header; 17 Position)
signal-integrity model Connector
pins: 1, 2, 3, 4, 5, 6, 7, 8, 9, 10, 11, 12, 13, 14, 15, 16, 17

## Header 18
designator P?
Header, 18-Pin; LatestRevisionDate: 17-Jul-2002; LatestRevisionNote: Re-released for DXP Platform.; Publisher: Altium Limited
footprint HDR1X18 (Connector; Header; 18 Position)
signal-integrity model Connector
pins: 1, 2, 3, 4, 5, 6, 7, 8, 9, 10, 11, 12, 13, 14, 15, 16, 17, 18

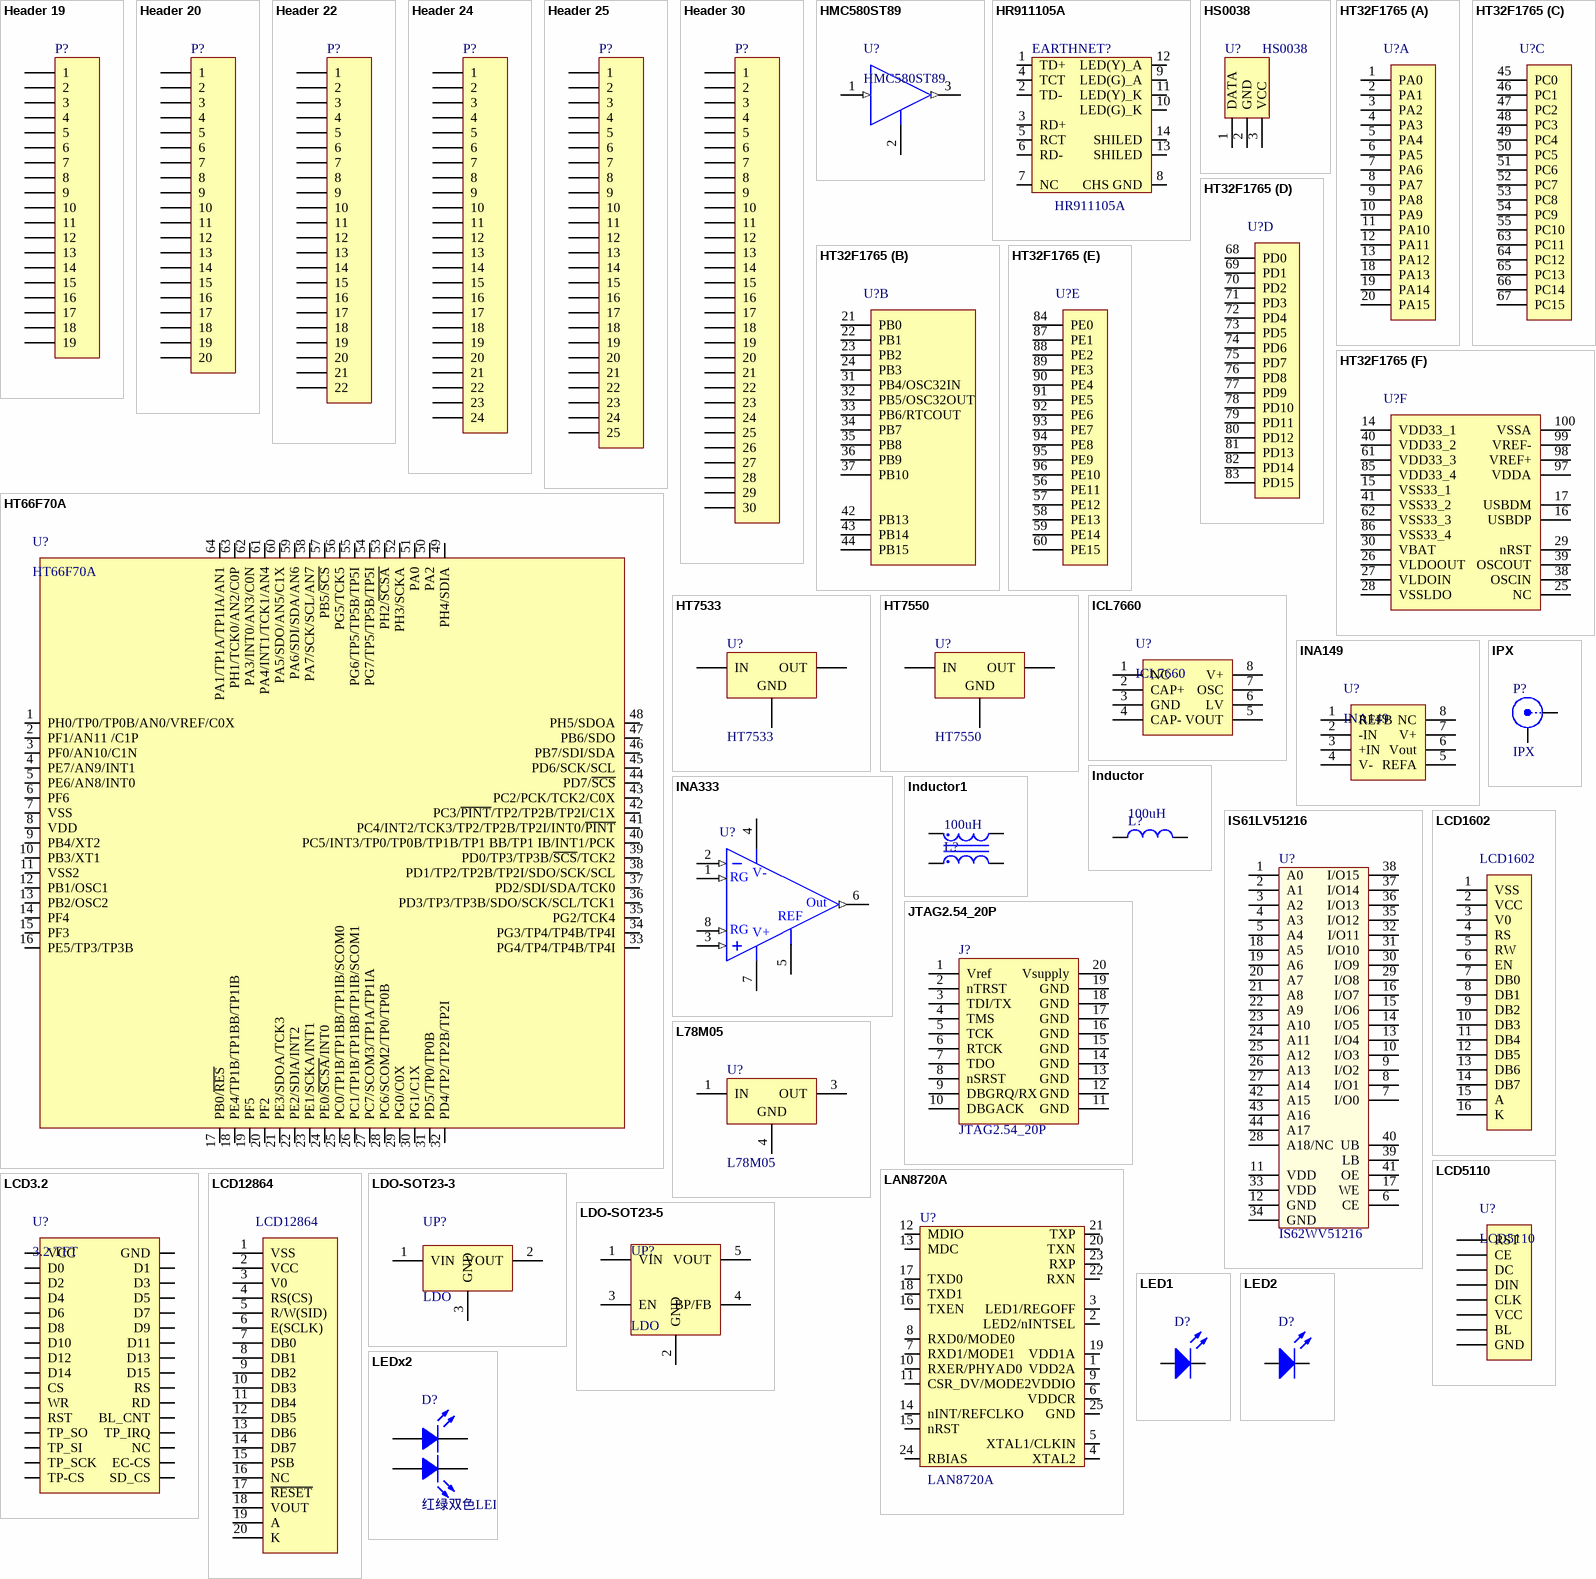
[diagram p2: symbols Header 19 to LEDx2]

## Header 19
designator P?
Header, 19-Pin; LatestRevisionDate: 17-Jul-2002; LatestRevisionNote: Re-released for DXP Platform.; Publisher: Altium Limited
footprint HDR1X19 (Connector; Header; 19 Position)
signal-integrity model Connector
pins: 1, 2, 3, 4, 5, 6, 7, 8, 9, 10, 11, 12, 13, 14, 15, 16, 17, 18, 19

## Header 20
designator P?
Header, 20-Pin; LatestRevisionDate: 17-Jul-2002; LatestRevisionNote: Re-released for DXP Platform.; Publisher: Altium Limited
footprint HDR1X20 (Connector; Header; 20 Position)
signal-integrity model Connector
pins: 1, 2, 3, 4, 5, 6, 7, 8, 9, 10, 11, 12, 13, 14, 15, 16, 17, 18, 19, 20

## Header 22
designator P?
Header, 22-Pin; LatestRevisionDate: 17-Jul-2002; LatestRevisionNote: Re-released for DXP Platform.; Publisher: Altium Limited
footprint HDR1X22 (Connector; Header; 22 Position)
signal-integrity model Connector
pins: 1, 2, 3, 4, 5, 6, 7, 8, 9, 10, 11, 12, 13, 14, 15, 16, 17, 18, 19, 20, 21, 22

## Header 24
designator P?
Header, 24-Pin; LatestRevisionDate: 17-Jul-2002; LatestRevisionNote: Re-released for DXP Platform.; Publisher: Altium Limited
footprint HDR1X24 (Connector; Header; 24 Position)
signal-integrity model Connector
pins: 1, 2, 3, 4, 5, 6, 7, 8, 9, 10, 11, 12, 13, 14, 15, 16, 17, 18, 19, 20, 21, 22, 23, 24

## Header 25
designator P?
Header, 25-Pin; LatestRevisionDate: 17-Jul-2002; LatestRevisionNote: Re-released for DXP Platform.; Publisher: Altium Limited
footprint HDR1X25 (Connector; Header; 25 Position)
signal-integrity model Connector
pins: 1, 2, 3, 4, 5, 6, 7, 8, 9, 10, 11, 12, 13, 14, 15, 16, 17, 18, 19, 20, 21, 22, 23, 24, 25

## Header 30
designator P?
Header, 30-Pin; LatestRevisionDate: 17-Jul-2002; LatestRevisionNote: Re-released for DXP Platform.; Publisher: Altium Limited
footprint HDR1X30 (Connector; Header; 30 Position)
signal-integrity model Connector
pins: 1, 2, 3, 4, 5, 6, 7, 8, 9, 10, 11, 12, 13, 14, 15, 16, 17, 18, 19, 20, 21, 22, 23, 24, 25, 26, 27, 28, 29, 30

## HMC580ST89
designator U?
footprint SOT89N (SOT89, 3-Leads, Body 4.5x2.4 mm, Pitch 1.5mm, Lead Span 4.1mm, IPC Medium Density)
pins: 1 IN (in), 2 GND (power), 3 OUT (out)

## HR911105A
designator EARTHNET?
footprint HR911105A (NET_WORK)
pins: 1 TD+, 2 TD-, 3 RD+, 4 TCT, 5 RCT, 6 RD-, 7 NC, 8 CHS GND, 9 LED(G)_A, 10 LED(G)_K, 11 LED(Y)_K, 12 LED(Y)_A, 13 SHILED, 14 SHILED

## HS0038
designator U?
footprint HS0038
pins: 1 DATA, 2 GND, 3 VCC

## HT32F1765
designator U?  (value not drawn)
footprint LQFP100_L (Thin QFP, 100-Leads, Body 14x14mm, Pitch 0.5mm, IPC High Density)
footprint LQFP100_M (Thin QFP, 100-Leads, Body 14x14mm, Pitch 0.5mm, IPC Low Density)
footprint LQFP100_N (Thin QFP, 100-Leads, Body 14x14mm, Pitch 0.5mm, IPC Medium Density)
footprint LQFP100_V (Thin QFP, 100-Leads, Body 14x14mm, Pitch 0.5mm, ST Recommended)
part A pins: 1 PA0, 2 PA1, 3 PA2, 4 PA3, 5 PA4, 6 PA5, 7 PA6, 8 PA7, 9 PA8, 10 PA9, 11 PA10, 12 PA11, 13 PA12, 18 PA13, 19 PA14, 20 PA15
part B pins: 21 PB0, 22 PB1, 23 PB2, 24 PB3, 31 PB4/OSC32IN, 32 PB5/OSC32OUT, 33 PB6/RTCOUT, 34 PB7, 35 PB8, 36 PB9, 37 PB10, 42 PB13, 43 PB14, 44 PB15
part C pins: 45 PC0, 46 PC1, 47 PC2, 48 PC3, 49 PC4, 50 PC5, 51 PC6, 52 PC7, 53 PC8, 54 PC9, 55 PC10, 63 PC11, 64 PC12, 65 PC13, 66 PC14, 67 PC15
part D pins: 68 PD0, 69 PD1, 70 PD2, 71 PD3, 72 PD4, 73 PD5, 74 PD6, 75 PD7, 76 PD8, 77 PD9, 78 PD10, 79 PD11, 80 PD12, 81 PD13, 82 PD14, 83 PD15
part E pins: 56 PE11, 57 PE12, 58 PE13, 59 PE14, 60 PE15, 84 PE0, 87 PE1, 88 PE2, 89 PE3, 90 PE4, 91 PE5, 92 PE6, 93 PE7, 94 PE8, 95 PE9, 96 PE10
part F pins: 14 VDD33_1, 15 VSS33_1, 16 USBDP, 17 USBDM, 25 NC, 26 VLDOOUT, 27 VLDOIN, 28 VSSLDO, 29 nRST, 30 VBAT, 38 OSCIN, 39 OSCOUT, 40 VDD33_2, 41 VSS33_2, 61 VDD33_3, 62 VSS33_3, 85 VDD33_4, 86 VSS33_4, 97 VDDA, 98 VREF+, 99 VREF-, 100 VSSA

## HT66F70A
designator U?
footprint HT66F70A (TSQFP, 64-Leads, Body 7.00x7.00mm, Pitch 0.40mm, IPC Medium Density)
pins: 1 PH0/TP0/TP0B/AN0/VREF/C0X, 2 PF1/AN11 /C1P, 3 PF0/AN10/C1N, 4 PE7/AN9/INT1, 5 PE6/AN8/INT0, 6 PF6, 7 VSS, 8 VDD, 9 PB4/XT2, 10 PB3/XT1, 11 VSS2, 12 PB1/OSC1, 13 PB2/OSC2, 14 PF4, 15 PF3, 16 PE5/TP3/TP3B, 17 PB0/~{RES}, 18 PE4/TP1B/TP1BB/TP1IB, 19 PF5, 20 PF2, 21 PE3/SDOA/TCK3, 22 PE2/SDIA/INT2, 23 PE1/SCKA/INT1, 24 PE0/~{SCSA}/INT0, 25 PC0/TP1B/TP1BB/TP1IB/SCOM0, 26 PC1/TP1B/TP1BB/TP1IB/SCOM1, 27 PC7/SCOM3/TP1A/TP1IA, 28 PC6/SCOM2/TP0/TP0B, 29 PG0/C0X, 30 PG1/C1X, 31 PD5/TP0/TP0B, 32 PD4/TP2/TP2B/TP2I, 33 PG4/TP4/TP4B/TP4I, 34 PG3/TP4/TP4B/TP4I, 35 PG2/TCK4, 36 PD3/TP3/TP3B/SDO/SCK/SCL/TCK1, 37 PD2/SDI/SDA/TCK0, 38 PD1/TP2/TP2B/TP2I/SDO/SCK/SCL, 39 PD0/TP3/TP3B/~{SCS}/TCK2, 40 PC5/INT3/TP0/TP0B/TP1B/TP1 BB/TP1 IB/INT1/PCK, 41 PC4/INT2/TCK3/TP2/TP2B/TP2I/INT0/~{PINT}, 42 PC3/~{PINT}/TP2/TP2B/TP2I/C1X, 43 PC2/PCK/TCK2/C0X, 44 PD7/~{SCS}, 45 PD6/SCK/SCL, 46 PB7/SDI/SDA, 47 PB6/SDO, 48 PH5/SDOA, 49 PH4/SDIA, 50 PA2, 51 PA0, 52 PH3/SCKA, 53 PH2/~{SCSA}, 54 PG7/TP5/TP5B/TP5I, 55 PG6/TP5/TP5B/TP5I, 56 PG5/TCK5, 57 PB5/~{SCS}, 58 PA7/SCK/SCL/AN7, 59 PA6/SDI/SDA/AN6, 60 PA5/SDO/AN5/C1X, 61 PA4/INT1/TCK1/AN4, 62 PA3/INT0/AN3/C0N, 63 PH1/TCK0/AN2/C0P, 64 PA1/TP1A/TP1IA/AN1

## HT7533
designator U?
3.3V Low Power,  Low Dropout Voltage (LDO) Regulator; Published: 30-Mar-2007; DatasheetVersion: rev1.50, Jan-2006; PackageVersion: Jan-2006; PackageReference: SOT-89; Publisher: Altium Limited; PackageDescription: 3-Pin SOT-89 Package 1.5 mm Pitch, 4.1 mm Lead Span; Code_IPC: SOT89; ComponentLink1Description: Manufacturer Link; ComponentLink1URL: http://www.holtek.com/; ComponentLink2Description: Datasheet; ComponentLink2URL: http://www.holtek.com/pdf/consumer/75xx_1v150.pdf
footprint SOT89N (SOT89, 3-Leads, Body 4.5x2.4 mm, Pitch 1.5mm, Lead Span 4.1mm, IPC Medium Density)
footprint SOT89L (SOT89, 3-Leads, Body 4.5x2.4 mm, Pitch 1.5mm, Lead Span 4.1mm, IPC High Density)
footprint SOT89M (SOT89, 3-Leads, Body 4.5x2.4 mm, Pitch 1.5mm, Lead Span 4.1mm, IPC Low Density)
pins: 1 GND (power), 2 IN (power), 3 OUT (power)

## HT7550
designator U?
5.0V Low Power,  Low Dropout Voltage (LDO) Regulator; Published: 30-Mar-2007; DatasheetVersion: rev1.50, Jan-2006; PackageVersion: Jan-2006; PackageReference: SOT-89; Publisher: Altium Limited; PackageDescription: 3-Pin SOT-89 Package 1.5 mm Pitch, 4.1 mm Lead Span; Code_IPC: SOT89; ComponentLink1Description: Manufacturer Link; ComponentLink1URL: http://www.holtek.com/; ComponentLink2Description: Datasheet; ComponentLink2URL: http://www.holtek.com/pdf/consumer/75xx_1v150.pdf
footprint SOT89N (SOT89, 3-Leads, Body 4.5x2.4 mm, Pitch 1.5mm, Lead Span 4.1mm, IPC Medium Density)
footprint SOT89L (SOT89, 3-Leads, Body 4.5x2.4 mm, Pitch 1.5mm, Lead Span 4.1mm, IPC High Density)
footprint SOT89M (SOT89, 3-Leads, Body 4.5x2.4 mm, Pitch 1.5mm, Lead Span 4.1mm, IPC Low Density)
pins: 1 GND (power), 2 IN (power), 3 OUT (power)

## ICL7660
designator U?
footprint SOIC8_L (SOIC, 8-Leads, Body 4.9x3.9mm, Pitch 1.27mm, IPC High Density)
footprint SOIC8_M (SOIC, 8-Leads, Body 4.9x3.9mm, Pitch 1.27mm, IPC Low Density)
footprint SOIC8_N (SOIC, 8-Leads, Body 4.9x3.9mm, Pitch 1.27mm, IPC Medium Density)
pins: 1 NC, 2 CAP+, 3 GND, 4 CAP-, 5 VOUT, 6 LV, 7 OSC, 8 V+

## INA149
designator U?
footprint DIP-8 (width 7.62mm)
pins: 1 REFB, 2 -IN, 3 +IN, 4 V-, 5 REFA, 6 Vout, 7 V+, 8 NC

## INA333
designator U?  (value not drawn)
footprint VSSOP_8
pins: 1 RG1 (in), 2 IN- (in), 3 IN+ (in), 4 V- (power), 5 REF (power), 6 OUT (out), 7 V+ (power), 8 RG2 (in)
text: RG; Out

## Inductor
designator L?  value 100uH  (hidden comment: Inductor)
Code_IEC: 1005; Published: 8-Jun-2000; LatestRevisionDate: 29-May-2009; LatestRevisionNote: IPC-7351 Footprint Added.; PackageReference: 0402-A; Publisher: Altium Limited; PackageDescription: Chip Inductor; Code_JEITA: 0402
footprint IND_0608_4.8
footprint DO-15-UP
footprint IND_0603
footprint IND_0805
footprint IND_10x10
footprint IND_1206 (Body 3.2x1.6mm, IPC Medium Density)
footprint IND_7032
footprint IND_252010
footprint IND_7545
footprint IND_127 (12*12*7mm)
pins: 1, 2

## Inductor1
designator L?, comment value 100uH  (hidden comment: Inductor)
共模电感; Code_IEC: 1005; Published: 8-Jun-2000; LatestRevisionDate: 29-May-2009; LatestRevisionNote: IPC-7351 Footprint Added.; PackageReference: 0402-A; Publisher: Altium Limited; PackageDescription: Chip Inductor; Code_JEITA: 0402
footprint IND0163-B
pins: 1, 2, 3, 4

## IPX
designator P?
IPX Elbow Connector; LatestRevisionDate: 17-Jul-2002; LatestRevisionNote: Re-released for DXP Platform.; Publisher: Altium Limited
footprint IPX
pins: 1 X, 2 Y

## IS61LV51216
designator U?, comment IS62WV51216
footprint TSOP44
pins: 1 A0, 2 A1, 3 A2, 4 A3, 5 A4, 6 CE, 7 I/O0, 8 I/O1, 9 I/O2, 10 I/O3, 11 VDD, 12 GND, 13 I/O4, 14 I/O5, 15 I/O6, 16 I/O7, 17 WE, 18 A5, 19 A6, 20 A7, 21 A8, 22 A9, 23 A10, 24 A11, 25 A12, 26 A13, 27 A14, 28 A18/NC, 29 I/O8, 30 I/O9, 31 I/O10, 32 I/O11, 33 VDD, 34 GND, 35 I/O12, 36 I/O13, 37 I/O14, 38 I/O15, 39 LB, 40 UB, 41 OE, 42 A15, 43 A16, 44 A17

## JTAG2.54_20P
designator J?
footprint HDR2x10_TOP
pins: 1 Vref, 2 nTRST, 3 TDI/TX, 4 TMS, 5 TCK, 6 RTCK, 7 TDO, 8 nSRST, 9 DBGRQ/RX, 10 DBGACK, 11 GND, 12 GND, 13 GND, 14 GND, 15 GND, 16 GND, 17 GND, 18 GND, 19 GND, 20 Vsupply

## L78M05
designator U?
Precision 500mA Regulator; Published: 24-Aug-2001; LatestRevisionDate: 06-Jun-2005; LatestRevisionNote: PCB pads lengthened.; DatasheetVersion: Mar-1997; PackageVersion: Jun-2004; PackageReference: TO-252; Publisher: Altium Limited; PackageDescription: D-PAK/TO-252-AA; 3 Leads (1 Cropped); Body 10.1 (inc. leads) x 6.6 mm (LxW max); ComponentLink1Description: Manufacturer Link; ComponentLink1URL: http://www.st.com/; ComponentLink2Description: Datasheet; ComponentLink2URL: http://www.st.com/stonline/products/literature/ds/2147/l78m05ab.pdf
footprint TO-252 (D-PAK/TO-252-AA; 3 Leads (1 Cropped); Body 10.1 (inc. leads) x 6.6 mm (LxW max))
pins: 1 IN (power), 3 OUT (power), 4 GND (power)

## LAN8720A
designator U?
ETH PHY
footprint QFN24 (QFN, 24-Leads, Body 4.0x4.0mm (max), Pitch 0.50mm, IPC Medium Density)
pins: 1 VDD2A, 2 LED2/nINTSEL, 3 LED1/REGOFF, 4 XTAL2, 5 XTAL1/CLKIN, 6 VDDCR, 7 RXD1/MODE1, 8 RXD0/MODE0, 9 VDDIO, 10 RXER/PHYAD0, 11 CSR_DV/MODE2, 12 MDIO, 13 MDC, 14 nINT/REFCLKO, 15 nRST, 16 TXEN, 17 TXD0, 18 TXD1, 19 VDD1A, 20 TXN, 21 TXP, 22 RXN, 23 RXP, 24 RBIAS, 25 GND

## LCD3.2
designator U?, comment 3.2 TFT
footprint LCD3.2
pins: 1 VCC, 2 GND, 3 D0, 4 D1, 5 D2, 6 D3, 7 D4, 8 D5, 9 D6, 10 D7, 11 D8, 12 D9, 13 D10, 14 D11, 15 D12, 16 D13, 17 D14, 18 D15, 19 CS, 20 RS, 21 WR, 22 RD, 23 RST, 24 BL_CNT, 25 TP_SO, 26 TP_IRQ, 27 TP_SI, 28 NC, 29 TP_SCK, 30 EC-CS, 31 TP-CS, 32 SD_CS

## LCD1602
designator LCD1602  (value not drawn)
footprint LCD1602
pins: 1 VSS, 2 VCC, 3 V0, 4 RS, 5 RW, 6 EN, 7 DB0, 8 DB1, 9 DB2, 10 DB3, 11 DB4, 12 DB5, 13 DB6, 14 DB7, 15 A, 16 K

## LCD5110
designator U?
footprint LCD5110
pins: 1 RST, 2 CE, 3 DC, 4 DIN, 5 CLK, 6 VCC, 7 BL, 8 GND

## LCD12864
designator LCD12864  (value not drawn)
footprint LCD12864
pins: 1 VSS, 2 VCC, 3 V0, 4 RS(CS), 5 R/W(SID), 6 E(SCLK), 7 DB0, 8 DB1, 9 DB2, 10 DB3, 11 DB4, 12 DB5, 13 DB6, 14 DB7, 15 PSB, 16 NC, 17 ~{RESET}, 18 VOUT, 19 A, 20 K

## LDO-SOT23-3
designator UP?, comment LDO
footprint SOT23_L (SOT23, 3-Leads, Body 2.9x1.3mm, Pitch 0.95mm, Lead Span 2.3mm - Reverse Pinning, IPC High Density)
footprint SOT23_M (SOT23, 3-Leads, Body 2.9x1.3mm, Pitch 0.95mm, Lead Span 2.3mm - Reverse Pinning, IPC Low Density)
footprint SOT23_N (SOT23, 3-Leads, Body 2.9x1.3mm, Pitch 0.95mm, Lead Span 2.3mm - Reverse Pinning, IPC Medium Density)
pins: 1 VIN, 2 VOUT, 3 GND

## LDO-SOT23-5
designator UP?, comment LDO
footprint SOT23-5_L (SOT23, 5-Leads, Body 2.9x1.6mm, Pitch 0.95mm, Lead Span 2.8mm, IPC High Density)
footprint SOT23-5_M (SOT23, 5-Leads, Body 2.9x1.6mm, Pitch 0.95mm, Lead Span 2.8mm, IPC Low Density)
footprint SOT23-5_N (SOT23, 5-Leads, Body 2.9x1.6mm, Pitch 0.95mm, Lead Span 2.8mm, IPC Medium Density)
pins: 1 VIN, 2 GND, 3 EN, 4 BP/FB, 5 VOUT

## LED1
designator D?
Typical RED GaAs LED; Published: 8-Jun-2000; LatestRevisionDate: 08-Jul-2005; LatestRevisionNote: Mech Layer 1 removed.; PackageReference: LED-1; Publisher: Altium Limited; PackageDescription: LED; 2 Leads
simulation model LED1 (Diode)
footprint LED-1
pins: 1 A, 2 K

## LED2
designator D?
Typical RED, GREEN, YELLOW, AMBER GaAs LED; Published: 8-Jun-2000; LatestRevisionDate: 17-Jul-2002; LatestRevisionNote: Re-released for DXP Platform.; PackageVersion: Feb-2002; PackageReference: 3.2X1.6X1.1; Publisher: Altium Limited; PackageDescription: SM LED; 2 Flat Leads
simulation model LED2 (Diode)
footprint CD1005-0402 (Chip Diode; Body 1.0 x 0.5 mm (LxW typ))
footprint CD1608-0603 (Chip Diode; Body 1.6 x 0.8 mm (LxW typ))
footprint CD2012-0805 (Chip Diode; Body 2.0 x 1.3 mm (LxW typ))
footprint CD3216-1206 (Chip Diode; Body 3.2 x 1.6 mm (LxW typ))
footprint CD1005-0402-L (Chip Diode; Body 1.0 x 0.5 mm (LxW typ))
footprint CD1608-0603-L (Footprint not found)
pins: 1 A, 2 K

## LEDx2
designator D?, comment 红绿双色LED
Published: 8-Jun-2000; LatestRevisionDate: 08-Jul-2005; LatestRevisionNote: Mech Layer 1 removed.; PackageReference: LED-1; Publisher: Altium Limited; PackageDescription: LED; 2 Leads
footprint LED0805x2
pins: 1 A, 2 A, 3 K, 4 K

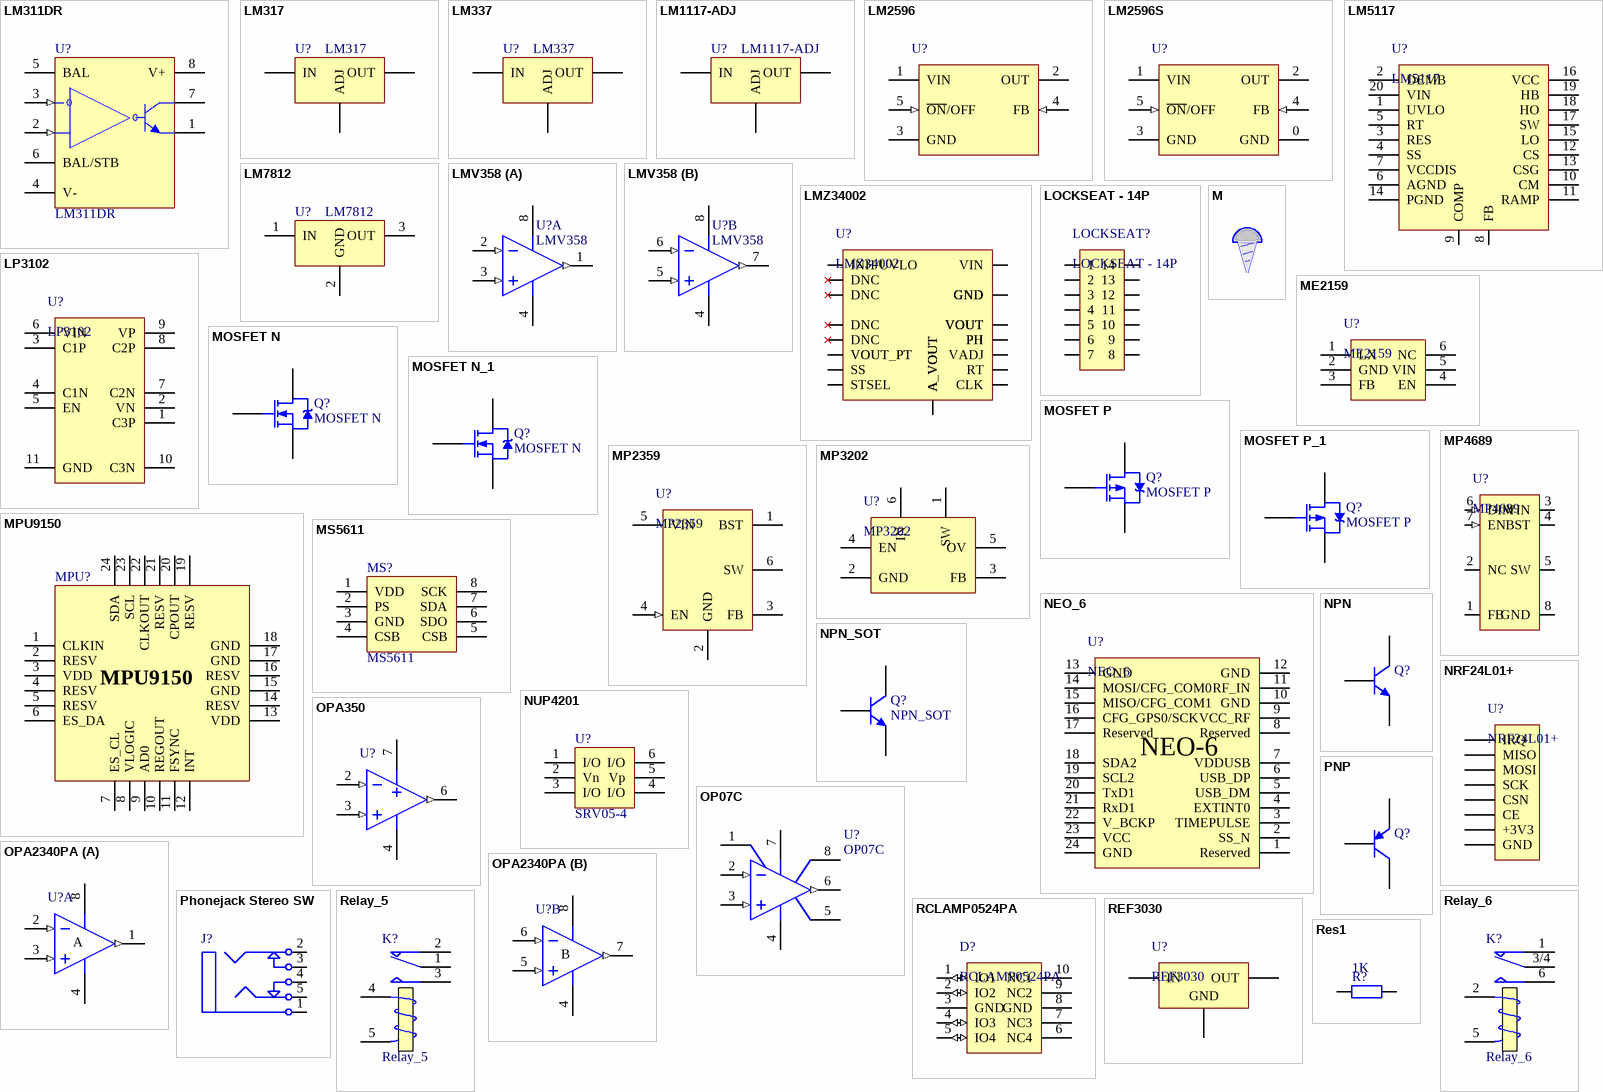
[diagram p3: symbols LM311DR to Res1]

## LM311DR
designator U?
Differential Comparator with Strobes; Published: 15-Apr-2002; LatestRevisionDate: 13-Apr-2006; LatestRevisionNote: IPC-7351 Footprint Added.; DatasheetVersion: Mar-1988; PackageVersion: Jan-1998; PackageReference: D008; Publisher: Altium Limited; PackageDescription: 8-Pin Small Outline Integrated Circuit 1.27 mm Pitch; Code_IPC: SOIC127P600-8; ComponentLink1Description: Manufacturer Link; ComponentLink1URL: http://www.ti.com/; ComponentLink2Description: Datasheet; ComponentLink2URL: http://www-s.ti.com/sc/ds/lm311.pdf
footprint SOIC8_L (SOIC, 8-Leads, Body 4.9x3.9mm, Pitch 1.27mm, IPC High Density)
footprint SOIC8_M (SOIC, 8-Leads, Body 4.9x3.9mm, Pitch 1.27mm, IPC Low Density)
footprint SOIC8_N (SOIC, 8-Leads, Body 4.9x3.9mm, Pitch 1.27mm, IPC Medium Density)
pins: 1 EM OUT, 2 IN+ (in), 3 IN- (in), 4 V- (power), 5 BAL, 6 BAL/STB, 7 COL OUT, 8 V+ (power)

## LM317
designator U?
footprint SOT-223_N (SOT223, 4-Leads, Body 6.5x3.5mm, Pitch 2.3mm, Lead Span 7mm - Alternate Lead Configuration, IPC Medium Density)
pins: 1 ADJ, 2 OUT, 3 IN, 4 OUT

## LM337
designator U?
负压输出LDO
footprint SOT-223_N (SOT223, 4-Leads, Body 6.5x3.5mm, Pitch 2.3mm, Lead Span 7mm - Alternate Lead Configuration, IPC Medium Density)
pins: 1 ADJ, 2 IN, 3 OUT, 4 IN

## LM1117-ADJ
designator U?
footprint SOT-223_N (SOT223, 4-Leads, Body 6.5x3.5mm, Pitch 2.3mm, Lead Span 7mm - Alternate Lead Configuration, IPC Medium Density)
pins: 1 ADJ, 2 OUT, 3 IN, 4 OUT

## LM2596
designator U?
SIMPLE SWITCHER 1A Step-Down Voltage Regulator; PartNumber: LM2575T-ADJ; Manufacturer: National Semiconductor; PackageTopMarking: NSUZXYTT*LM2575T*-ADJ P+; PowerWise: N; FirstPublished: 4-Dec-2008; DatasheetVersion: Apr-2007; PackageVersion: revJ, Jan-1992; PackageReference: T05A; Publisher: Altium Limited; PackageDescription: TO-220, Molded, 5 Lead, Straight; CompType: Switcher; RoHS: O; PinCount: 5; DigiKeyPartNumber: LM2575T-ADJNS-ND; Code_JEDEC: TO-220-AB; ComponentLink1Description: LM2575 Datasheet; ComponentLink1URL: http://www.national.com/ds/LM/LM2575.pdf; ComponentLink2Description: LM2575 Web Page; ComponentLink2URL: http://www.national.com/pf/LM/LM2575.html; ComponentLink3Description: T05A Package Page; ComponentLink3URL: http://www.national.com/packaging/folders/t05a.html
footprint T05A (TO, Thru-Hole, Vertical, Heatsink Mounted; 5 In-Line Leads; Pitch 1.70 mm)
pins: 1 VIN (power), 2 OUT (power), 3 GND (power), 4 FB (in), 5 ~{ON}/OFF (in)

## LM2596S
designator U?
SIMPLE SWITCHER 1A Step-Down Voltage Regulator; PartNumber: LM2575T-ADJ; Manufacturer: National Semiconductor; PackageTopMarking: NSUZXYTT*LM2575T*-ADJ P+; PowerWise: N; FirstPublished: 4-Dec-2008; DatasheetVersion: Apr-2007; PackageVersion: revJ, Jan-1992; PackageReference: T05A; Publisher: Altium Limited; PackageDescription: TO-220, Molded, 5 Lead, Straight; CompType: Switcher; RoHS: O; PinCount: 5; DigiKeyPartNumber: LM2575T-ADJNS-ND; Code_JEDEC: TO-220-AB; ComponentLink1Description: LM2575 Datasheet; ComponentLink1URL: http://www.national.com/ds/LM/LM2575.pdf; ComponentLink2Description: LM2575 Web Page; ComponentLink2URL: http://www.national.com/pf/LM/LM2575.html; ComponentLink3Description: T05A Package Page; ComponentLink3URL: http://www.national.com/packaging/folders/t05a.html
footprint TO-263
pins: 0 GND (power), 1 VIN (power), 2 OUT (power), 3 GND (power), 4 FB (in), 5 ~{ON}/OFF (in)